# EAGLE library part 90 (library display-lcd-lxd)
6 Numerical Digit, 1.00" (25.40) Direct Drive Display Additional Descriptors: none
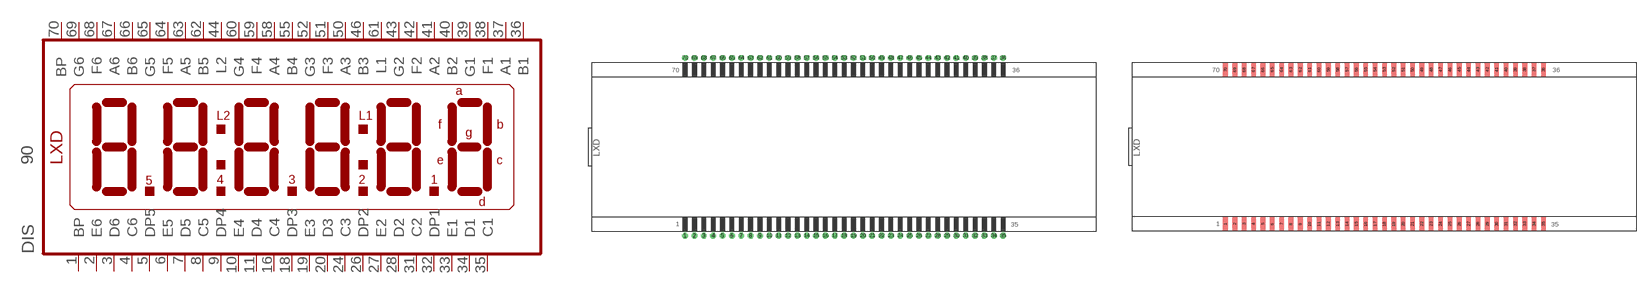
[diagram p27: symbol with the pads of 90-D; footprints 90-D, 90-E]

Designator prefix DIS

## 90DIP  [90-D]
1  BP  pas
2  E6  pas
3  D6  pas
4  C6  pas
5  DP5  pas
6  E5  pas
7  D5  pas
8  C5  pas
9  DP4  pas
10  E4  pas
11  D4  pas
16  C4  pas
18  DP3  pas
19  E3  pas
20  D3  pas
24  C3  pas
26  DP2  pas
27  E2  pas
28  D2  pas
31  C2  pas
32  DP1  pas
33  E1  pas
34  D1  pas
35  C1  pas
36  B1  pas
37  A1  pas
38  F1  pas
39  G1  pas
40  B2  pas
41  A2  pas
42  F2  pas
43  G2  pas
44  L2  pas
46  B3  pas
50  A3  pas
51  F3  pas
52  G3  pas
55  B4  pas
58  A4  pas
59  F4  pas
60  G4  pas
61  L1  pas
62  B5  pas
63  A5  pas
64  F5  pas
65  G5  pas
66  B6  pas
67  A6  pas
68  F6  pas
69  G6  pas
70  BP  pas

## 90SMD  [90-E]
Pads as for 90-D

## Footprint 90-D (pad centres in mm)
Glass Size: 5.40" x 1.80" &nbsp &nbsp &nbsp &nbsp &nbsp &nbsp &nbsp &nbsp &nbsp (137.16 x 45.72)
drill 0.813 pad 1.6 round: 1 -43.18,-24.13
drill 0.813 pad 1.6 octagon: 2 -40.64,-24.13; 3 -38.1,-24.13; 4 -35.56,-24.13; 5 -33.02,-24.13; 6 -30.48,-24.13; 7 -27.94,-24.13; 8 -25.4,-24.13; 9 -22.86,-24.13; 10 -20.32,-24.13; 11 -17.78,-24.13; 12 -15.24,-24.13; 13 -12.7,-24.13; 14 -10.16,-24.13; 15 -7.62,-24.13; 16 -5.08,-24.13; 17 -2.54,-24.13; 18 0,-24.13; 19 2.54,-24.13; 20 5.08,-24.13; 21 7.62,-24.13; 22 10.16,-24.13; 23 12.7,-24.13; 24 15.24,-24.13; 25 17.78,-24.13; 26 20.32,-24.13; 27 22.86,-24.13; 28 25.4,-24.13; 29 27.94,-24.13; 30 30.48,-24.13; 31 33.02,-24.13; 32 35.56,-24.13; 33 38.1,-24.13; 34 40.64,-24.13; 35 43.18,-24.13; 36 43.18,24.13; 37 40.64,24.13; 38 38.1,24.13; 39 35.56,24.13; 40 33.02,24.13; 41 30.48,24.13; 42 27.94,24.13; 43 25.4,24.13; 44 22.86,24.13; 45 20.32,24.13; 46 17.78,24.13; 47 15.24,24.13; 48 12.7,24.13; 49 10.16,24.13; 50 7.62,24.13; 51 5.08,24.13; 52 2.54,24.13; 53 0,24.13; 54 -2.54,24.13; 55 -5.08,24.13; 56 -7.62,24.13; 57 -10.16,24.13; 58 -12.7,24.13; 59 -15.24,24.13; 60 -17.78,24.13; 61 -20.32,24.13; 62 -22.86,24.13; 63 -25.4,24.13; 64 -27.94,24.13; 65 -30.48,24.13; 66 -33.02,24.13; 67 -35.56,24.13; 68 -38.1,24.13; 69 -40.64,24.13; 70 -43.18,24.13

## Footprint 90-E (pad centres in mm)
Glass Size: 5.40" x 1.80" &nbsp &nbsp &nbsp &nbsp &nbsp &nbsp &nbsp &nbsp &nbsp (137.16 x 45.72)
smd 1.27 x 3.81: 1 -43.18,-20.955; 2 -40.64,-20.955; 3 -38.1,-20.955; 4 -35.56,-20.955; 5 -33.02,-20.955; 6 -30.48,-20.955; 7 -27.94,-20.955; 8 -25.4,-20.955; 9 -22.86,-20.955; 10 -20.32,-20.955; 11 -17.78,-20.955; 12 -15.24,-20.955; 13 -12.7,-20.955; 14 -10.16,-20.955; 15 -7.62,-20.955; 16 -5.08,-20.955; 17 -2.54,-20.955; 18 0,-20.955; 19 2.54,-20.955; 20 5.08,-20.955; 21 7.62,-20.955; 22 10.16,-20.955; 23 12.7,-20.955; 24 15.24,-20.955; 25 17.78,-20.955; 26 20.32,-20.955; 27 22.86,-20.955; 28 25.4,-20.955; 29 27.94,-20.955; 30 30.48,-20.955; 31 33.02,-20.955; 32 35.56,-20.955; 33 38.1,-20.955; 34 40.64,-20.955; 35 43.18,-20.955; 36 43.18,20.955; 37 40.64,20.955; 38 38.1,20.955; 39 35.56,20.955; 40 33.02,20.955; 41 30.48,20.955; 42 27.94,20.955; 43 25.4,20.955; 44 22.86,20.955; 45 20.32,20.955; 46 17.78,20.955; 47 15.24,20.955; 48 12.7,20.955; 49 10.16,20.955; 50 7.62,20.955; 51 5.08,20.955; 52 2.54,20.955; 53 0,20.955; 54 -2.54,20.955; 55 -5.08,20.955; 56 -7.62,20.955; 57 -10.16,20.955; 58 -12.7,20.955; 59 -15.24,20.955; 60 -17.78,20.955; 61 -20.32,20.955; 62 -22.86,20.955; 63 -25.4,20.955; 64 -27.94,20.955; 65 -30.48,20.955; 66 -33.02,20.955; 67 -35.56,20.955; 68 -38.1,20.955; 69 -40.64,20.955; 70 -43.18,20.955